# Altium footprint library Connector_JST.PcbLib: 558 footprints (part 19 of 35)
Each footprint in its own frame and in the unit in brackets; x right, y up, seen from the top. Pads: shape width x height; smd on the part's side, far side on the other; paste and mask are expansions set on the pad; w line width, h text height; cw(c..) or ccw(c..) is an arc to the next point about the centre after c.
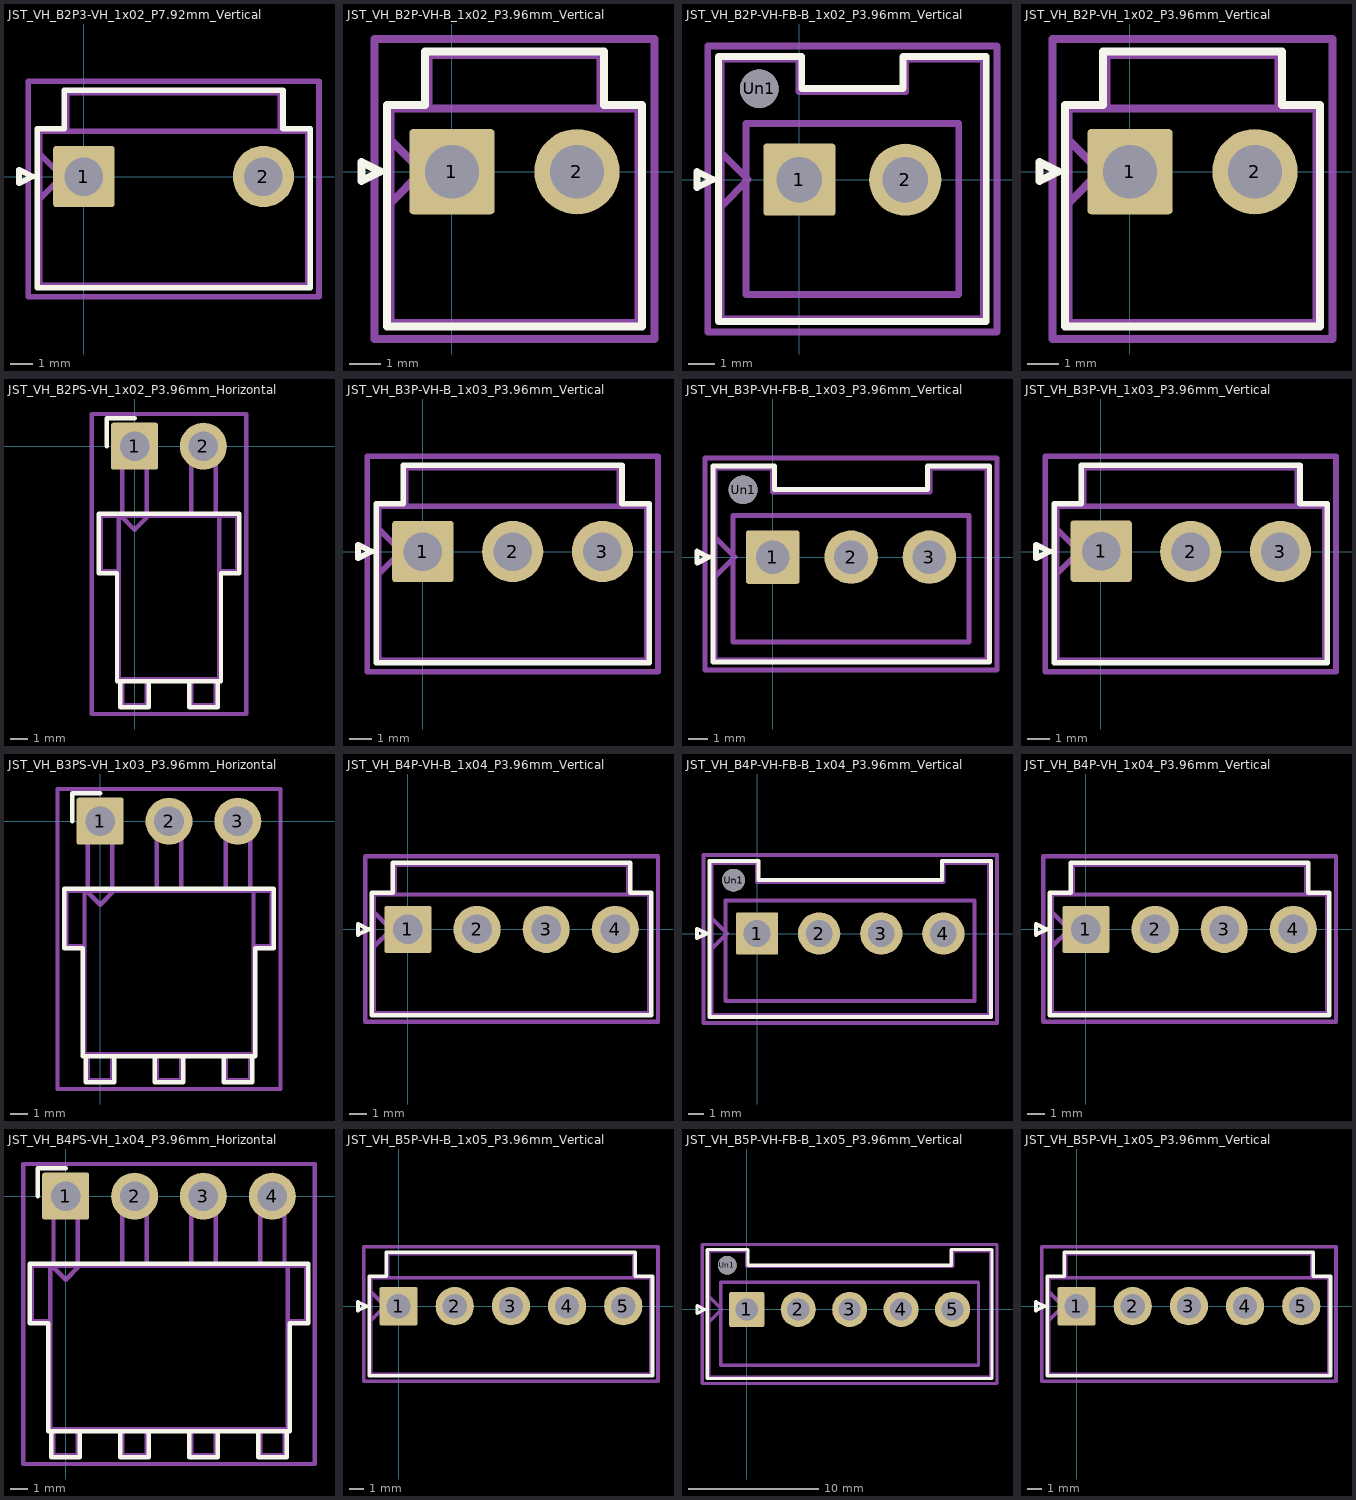
[diagram p18: the footprints below, top view; thin cyan lines are the x and y axes]

## JST_VH_B2P3-VH_1x02_P7.92mm_Vertical [mm] "JST_VH_B2P3-VH_1x02_P7.92mm_Vertical"
pads (2):
  rrect9% 2.7x2.7 hole 1.7: 1(0,0)
  round 2.7 hole 1.7: 2(7.92,0)
F.SilkS:
  lines w0.254: -2.86,-0.3 -2.26,0 -2.86,0.3 -2.86,-0.3 ; -2.06,-4.91 9.98,-4.91 9.98,2.11 8.78,2.11 8.78,3.81 -0.86,3.81 -0.86,2.11 -2.06,2.11 -2.06,-4.91
Top Component Center:
  lines w0.127: -0.127,0 0.127,0 ; 0,-0.127 0,0.127
Top Assembly:
  lines w0.254: -1.95,-1 -0.95,0 -1.95,1 ; -0.75,2 -0.75,3.7 8.67,3.7 8.67,2 ; -1.95,-4.8 9.87,-4.8 9.87,2 -1.95,2 -1.95,-4.8
Top Courtyard:
  lines w0.254: -2.45,-5.3 10.37,-5.3 10.37,4.2 -2.45,4.2 -2.45,-5.3
Top Designator:
  text ".Designator" at 0.253,-2.503 h1.52

## JST_VH_B2P-VH-B_1x02_P3.96mm_Vertical [mm] "JST_VH_B2P-VH-B_1x02_P3.96mm_Vertical"
pads (2):
  rrect9% 2.7x2.7 hole 1.7: 1(0,0)
  round 2.7 hole 1.7: 2(3.96,0)
F.SilkS:
  lines w0.254: -2.86,-0.3 -2.86,0.3 -2.26,0 -2.86,-0.3 ; -2.06,-4.91 -2.06,2.11 -0.86,2.11 -0.86,3.81 4.82,3.81 4.82,2.11 6.02,2.11 6.02,-4.91 -2.06,-4.91
Top Component Center:
  lines w0.127: -0.127,0 0.127,0 ; 0,-0.127 0,0.127
Top Assembly:
  lines w0.254: -1.95,-1 -0.95,0 -1.95,1 ; -0.75,2 -0.75,3.7 4.71,3.7 4.71,2 ; -1.95,-4.8 -1.95,2 5.91,2 5.91,-4.8 -1.95,-4.8
Top Courtyard:
  lines w0.254: -2.45,-5.3 -2.45,4.2 6.41,4.2 6.41,-5.3 -2.45,-5.3
Top Designator:
  text ".Designator" at -1.398,-2.884 h1.52

## JST_VH_B2P-VH-FB-B_1x02_P3.96mm_Vertical [mm] "JST_VH_B2P-VH-FB-B_1x02_P3.96mm_Vertical"
pads (3):
  rrect9% 2.7x2.7 hole 1.7: 1(0,0)
  round 2.7 hole 1.7: 2(3.96,0)
  round 1.45 hole 1.45: Un1(-1.5,3.4)
F.SilkS:
  lines w0.254: -3.83,-0.3 -3.23,0 -3.83,0.3 -3.83,-0.3 ; -3.03,-5.31 6.99,-5.31 6.99,4.61 3.87,4.61 3.87,3.41 0.09,3.41 0.09,4.61 -3.03,4.61 -3.03,-5.31
Top Component Center:
  lines w0.127: -0.127,0 0.127,0 ; 0,-0.127 0,0.127
Top Assembly:
  lines w0.254: -2.92,-1 -1.92,0 -2.92,1 ; -2.92,-5.2 6.88,-5.2 6.88,4.5 3.98,4.5 3.98,3.3 -0.02,3.3 -0.02,4.5 -2.92,4.5 -2.92,-5.2 ; -2,-4.3 5.96,-4.3 5.96,2.1 -2,2.1 -2,-4.3
Top Courtyard:
  lines w0.254: -3.43,-5.7 7.39,-5.7 7.39,5 -3.43,5 -3.43,-5.7
Top Designator:
  text ".Designator" at -1.525,-3.265 h1.52

## JST_VH_B2P-VH_1x02_P3.96mm_Vertical [mm] "JST_VH_B2P-VH_1x02_P3.96mm_Vertical"
pads (2):
  rrect9% 2.7x2.7 hole 1.7: 1(0,0)
  round 2.7 hole 1.7: 2(3.96,0)
F.SilkS:
  lines w0.254: -2.86,-0.3 -2.86,0.3 -2.26,0 -2.86,-0.3 ; -2.06,-4.91 -2.06,2.11 -0.86,2.11 -0.86,3.81 4.82,3.81 4.82,2.11 6.02,2.11 6.02,-4.91 -2.06,-4.91
Top Component Center:
  lines w0.127: -0.127,0 0.127,0 ; 0,-0.127 0,0.127
Top Assembly:
  lines w0.254: -1.95,-1 -0.95,0 -1.95,1 ; -0.75,2 -0.75,3.7 4.71,3.7 4.71,2 ; -1.95,-4.8 -1.95,2 5.91,2 5.91,-4.8 -1.95,-4.8
Top Courtyard:
  lines w0.254: -2.45,-5.3 -2.45,4.2 6.41,4.2 6.41,-5.3 -2.45,-5.3
Top Designator:
  text ".Designator" at -1.652,-2.884 h1.52

## JST_VH_B2PS-VH_1x02_P3.96mm_Horizontal [mm] "JST_VH_B2PS-VH_1x02_P3.96mm_Horizontal"
pads (2):
  rrect9% 2.7x2.7 hole 1.7: 1(0,0)
  round 2.7 hole 1.7: 2(3.96,0)
F.SilkS:
  lines w0.254: -1.61,0 -1.61,1.61 0,1.61 ; -0.82,-13.51 -0.82,-15.01 0.82,-15.01 0.82,-13.51 ; 3.14,-13.51 3.14,-15.01 4.78,-15.01 4.78,-13.51 ; -2.06,-7.31 -2.06,-3.89 6.02,-3.89 6.02,-7.31 4.97,-7.31 4.97,-13.51 -1.01,-13.51 -1.01,-7.31 -2.06,-7.31
Top Component Center:
  lines w0.127: -0.127,0 0.127,0 ; 0,-0.127 0,0.127
Top Assembly:
  lines w0.254: -0.9,-7.2 -1.95,-7.2 -1.95,-4 -0.9,-4 ; -0.8,-4 0,-4.8 0.8,-4 ; -0.7,-13.4 -0.7,-14.9 0.7,-14.9 0.7,-13.4 ; -0.7,-4 -0.7,0 0.7,0 0.7,-4 ; 3.26,-13.4 3.26,-14.9 4.66,-14.9 4.66,-13.4 ; 3.26,-4 3.26,0 4.66,0 4.66,-4 ; 4.86,-7.2 5.91,-7.2 5.91,-4 4.86,-4 ; -0.9,-4 -0.9,-13.4 4.86,-13.4 4.86,-4 ; -0.9,-4 4.86,-4
Top Courtyard:
  lines w0.254: -2.45,-15.4 -2.45,1.85 6.41,1.85 6.41,-15.4 -2.45,-15.4
Top Designator:
  text ".Designator" at -1.45,-7.119 h1.52

## JST_VH_B3P-VH-B_1x03_P3.96mm_Vertical [mm] "JST_VH_B3P-VH-B_1x03_P3.96mm_Vertical"
pads (3):
  rrect9% 2.7x2.7 hole 1.7: 1(0,0)
  round 2.7 hole 1.7: 2(3.96,0) 3(7.92,0)
F.SilkS:
  lines w0.254: -2.86,-0.3 -2.26,0 -2.86,0.3 -2.86,-0.3 ; -2.06,-4.91 9.98,-4.91 9.98,2.11 8.78,2.11 8.78,3.81 -0.86,3.81 -0.86,2.11 -2.06,2.11 -2.06,-4.91
Top Component Center:
  lines w0.127: -0.127,0 0.127,0 ; 0,-0.127 0,0.127
Top Assembly:
  lines w0.254: -1.95,-1 -0.95,0 -1.95,1 ; -0.75,2 -0.75,3.7 8.67,3.7 8.67,2 ; -1.95,-4.8 9.87,-4.8 9.87,2 -1.95,2 -1.95,-4.8
Top Courtyard:
  lines w0.254: -2.45,-5.3 10.37,-5.3 10.37,4.2 -2.45,4.2 -2.45,-5.3
Top Designator:
  text ".Designator" at 0.126,-3.011 h1.52

## JST_VH_B3P-VH-FB-B_1x03_P3.96mm_Vertical [mm] "JST_VH_B3P-VH-FB-B_1x03_P3.96mm_Vertical"
pads (4):
  rrect9% 2.7x2.7 hole 1.7: 1(0,0)
  round 2.7 hole 1.7: 2(3.96,0) 3(7.92,0)
  round 1.45 hole 1.45: Un1(-1.5,3.4)
F.SilkS:
  lines w0.254: -3.83,-0.3 -3.23,0 -3.83,0.3 -3.83,-0.3 ; -3.03,-5.31 10.95,-5.31 10.95,4.61 7.83,4.61 7.83,3.41 0.09,3.41 0.09,4.61 -3.03,4.61 -3.03,-5.31
Top Component Center:
  lines w0.127: -0.127,0 0.127,0 ; 0,-0.127 0,0.127
Top Assembly:
  lines w0.254: -2.92,-1 -1.92,0 -2.92,1 ; -2.92,-5.2 10.84,-5.2 10.84,4.5 7.94,4.5 7.94,3.3 -0.02,3.3 -0.02,4.5 -2.92,4.5 -2.92,-5.2 ; -2,-4.3 9.92,-4.3 9.92,2.1 -2,2.1 -2,-4.3
Top Courtyard:
  lines w0.254: -3.42,-5.7 11.34,-5.7 11.34,5 -3.42,5 -3.42,-5.7
Top Designator:
  text ".Designator" at 0.634,-2.884 h1.52

## JST_VH_B3P-VH_1x03_P3.96mm_Vertical [mm] "JST_VH_B3P-VH_1x03_P3.96mm_Vertical"
pads (3):
  rrect9% 2.7x2.7 hole 1.7: 1(0.015,0.016)
  round 2.7 hole 1.7: 2(3.96,0) 3(7.92,0)
F.SilkS:
  lines w0.254: -2.86,-0.3 -2.86,0.3 -2.26,0 -2.86,-0.3 ; -2.06,-4.91 -2.06,2.11 -0.86,2.11 -0.86,3.81 8.78,3.81 8.78,2.11 9.98,2.11 9.98,-4.91 -2.06,-4.91
Top Component Center:
  lines w0.127: -0.112,0.016 0.142,0.016 ; 0.015,-0.111 0.015,0.143
Top Assembly:
  lines w0.254: -1.95,-1 -0.95,0 -1.95,1 ; -0.75,2 -0.75,3.7 8.67,3.7 8.67,2 ; -1.95,-4.8 -1.95,2 9.87,2 9.87,-4.8 -1.95,-4.8
Top Courtyard:
  lines w0.254: -2.45,-5.3 -2.45,4.2 10.37,4.2 10.37,-5.3 -2.45,-5.3
Top Designator:
  text ".Designator" at 0.507,-2.63 h1.52

## JST_VH_B3PS-VH_1x03_P3.96mm_Horizontal [mm] "JST_VH_B3PS-VH_1x03_P3.96mm_Horizontal"
pads (3):
  rrect9% 2.7x2.7 hole 1.7: 1(0,0)
  round 2.7 hole 1.7: 2(3.96,0) 3(7.92,0)
F.SilkS:
  lines w0.254: -1.61,0 -1.61,1.61 0,1.61 ; -0.82,-13.51 -0.82,-15.01 0.82,-15.01 0.82,-13.51 ; 3.14,-13.51 3.14,-15.01 4.78,-15.01 4.78,-13.51 ; 7.1,-13.51 7.1,-15.01 8.74,-15.01 8.74,-13.51 ; -2.06,-7.31 -2.06,-3.89 9.98,-3.89 9.98,-7.31 8.93,-7.31 8.93,-13.51 -1.01,-13.51 -1.01,-7.31 -2.06,-7.31
Top Component Center:
  lines w0.127: -0.127,0 0.127,0 ; 0,-0.127 0,0.127
Top Assembly:
  lines w0.254: -0.9,-7.2 -1.95,-7.2 -1.95,-4 -0.9,-4 ; -0.8,-4 0,-4.8 0.8,-4 ; -0.7,-13.4 -0.7,-14.9 0.7,-14.9 0.7,-13.4 ; -0.7,-4 -0.7,0 0.7,0 0.7,-4 ; 3.26,-13.4 3.26,-14.9 4.66,-14.9 4.66,-13.4 ; 3.26,-4 3.26,0 4.66,0 4.66,-4 ; 7.22,-13.4 7.22,-14.9 8.62,-14.9 8.62,-13.4 ; 7.22,-4 7.22,0 8.62,0 8.62,-4 ; 8.82,-7.2 9.87,-7.2 9.87,-4 8.82,-4 ; -0.9,-4 -0.9,-13.4 8.82,-13.4 8.82,-4 ; -0.9,-4 8.82,-4
Top Courtyard:
  lines w0.254: -2.45,-15.4 -2.45,1.85 10.37,1.85 10.37,-15.4 -2.45,-15.4
Top Designator:
  text ".Designator" at 0.53,-7.119 h1.52

## JST_VH_B4P-VH-B_1x04_P3.96mm_Vertical [mm] "JST_VH_B4P-VH-B_1x04_P3.96mm_Vertical"
pads (4):
  rrect9% 2.7x2.7 hole 1.7: 1(0,0)
  round 2.7 hole 1.7: 2(3.96,0) 3(7.92,0) 4(11.88,0)
F.SilkS:
  lines w0.254: -2.86,-0.3 -2.86,0.3 -2.26,0 -2.86,-0.3 ; -2.06,-4.91 -2.06,2.11 -0.86,2.11 -0.86,3.81 12.74,3.81 12.74,2.11 13.94,2.11 13.94,-4.91 -2.06,-4.91
Top Component Center:
  lines w0.127: -0.127,0 0.127,0 ; 0,-0.127 0,0.127
Top Assembly:
  lines w0.254: -1.95,-1 -0.95,0 -1.95,1 ; -0.75,2 -0.75,3.7 12.63,3.7 12.63,2 ; -1.95,-4.8 -1.95,2 13.83,2 13.83,-4.8 -1.95,-4.8
Top Courtyard:
  lines w0.254: -2.45,-5.3 -2.45,4.2 14.33,4.2 14.33,-5.3 -2.45,-5.3
Top Designator:
  text ".Designator" at 2.412,-2.757 h1.52

## JST_VH_B4P-VH-FB-B_1x04_P3.96mm_Vertical [mm] "JST_VH_B4P-VH-FB-B_1x04_P3.96mm_Vertical"
pads (5):
  rrect9% 2.7x2.7 hole 1.7: 1(0,0)
  round 2.7 hole 1.7: 2(3.96,0) 3(7.92,0) 4(11.88,0)
  round 1.45 hole 1.45: Un1(-1.5,3.4)
F.SilkS:
  lines w0.254: -3.83,-0.3 -3.23,0 -3.83,0.3 -3.83,-0.3 ; -3.03,-5.31 14.91,-5.31 14.91,4.61 11.79,4.61 11.79,3.41 0.09,3.41 0.09,4.61 -3.03,4.61 -3.03,-5.31
Top Component Center:
  lines w0.127: -0.127,0 0.127,0 ; 0,-0.127 0,0.127
Top Assembly:
  lines w0.254: -2.92,-1 -1.92,0 -2.92,1 ; -2.92,-5.2 14.8,-5.2 14.8,4.5 11.9,4.5 11.9,3.3 -0.02,3.3 -0.02,4.5 -2.92,4.5 -2.92,-5.2 ; -2,-4.3 13.88,-4.3 13.88,2.1 -2,2.1 -2,-4.3
Top Courtyard:
  lines w0.254: -3.42,-5.7 15.3,-5.7 15.3,5 -3.42,5 -3.42,-5.7
Top Designator:
  text ".Designator" at 2.539,-2.884 h1.52

## JST_VH_B4P-VH_1x04_P3.96mm_Vertical [mm] "JST_VH_B4P-VH_1x04_P3.96mm_Vertical"
pads (4):
  rrect9% 2.7x2.7 hole 1.7: 1(0,0)
  round 2.7 hole 1.7: 2(3.96,0) 3(7.92,0) 4(11.88,0)
F.SilkS:
  lines w0.254: -2.86,-0.3 -2.26,0 -2.86,0.3 -2.86,-0.3 ; -2.06,-4.91 13.94,-4.91 13.94,2.11 12.74,2.11 12.74,3.81 -0.86,3.81 -0.86,2.11 -2.06,2.11 -2.06,-4.91
Top Component Center:
  lines w0.127: -0.127,0 0.127,0 ; 0,-0.127 0,0.127
Top Assembly:
  lines w0.254: -1.95,-1 -0.95,0 -1.95,1 ; -0.75,2 -0.75,3.7 12.63,3.7 12.63,2 ; -1.95,-4.8 13.83,-4.8 13.83,2 -1.95,2 -1.95,-4.8
Top Courtyard:
  lines w0.254: -2.45,-5.3 14.33,-5.3 14.33,4.2 -2.45,4.2 -2.45,-5.3
Top Designator:
  text ".Designator" at 2.539,2.577 h1.52

## JST_VH_B4PS-VH_1x04_P3.96mm_Horizontal [mm] "JST_VH_B4PS-VH_1x04_P3.96mm_Horizontal"
pads (4):
  rrect9% 2.7x2.7 hole 1.7: 1(0,0)
  round 2.7 hole 1.7: 2(3.96,0) 3(7.92,0) 4(11.88,0)
F.SilkS:
  lines w0.254: -1.61,0 -1.61,1.61 0,1.61 ; -0.82,-13.51 -0.82,-15.01 0.82,-15.01 0.82,-13.51 ; 3.14,-13.51 3.14,-15.01 4.78,-15.01 4.78,-13.51 ; 7.1,-13.51 7.1,-15.01 8.74,-15.01 8.74,-13.51 ; 11.06,-13.51 11.06,-15.01 12.7,-15.01 12.7,-13.51 ; -2.06,-7.31 -1.01,-7.31 -1.01,-13.51 12.89,-13.51 12.89,-7.31 13.94,-7.31 13.94,-3.89 -2.06,-3.89 -2.06,-7.31
Top Component Center:
  lines w0.127: -0.127,0 0.127,0 ; 0,-0.127 0,0.127
Top Assembly:
  lines w0.254: -0.9,-7.2 -1.95,-7.2 -1.95,-4 -0.9,-4 ; -0.8,-4 0,-4.8 0.8,-4 ; -0.7,-13.4 -0.7,-14.9 0.7,-14.9 0.7,-13.4 ; -0.7,-4 -0.7,0 0.7,0 0.7,-4 ; 3.26,-13.4 3.26,-14.9 4.66,-14.9 4.66,-13.4 ; 3.26,-4 3.26,0 4.66,0 4.66,-4 ; 7.22,-13.4 7.22,-14.9 8.62,-14.9 8.62,-13.4 ; 7.22,-4 7.22,0 8.62,0 8.62,-4 ; 11.18,-13.4 11.18,-14.9 12.58,-14.9 12.58,-13.4 ; 11.18,-4 11.18,0 12.58,0 12.58,-4 ; 12.78,-7.2 13.83,-7.2 13.83,-4 12.78,-4 ; -0.9,-4 12.78,-4 ; -0.9,-4 -0.9,-13.4 12.78,-13.4 12.78,-4
Top Courtyard:
  lines w0.254: -2.45,-15.4 14.33,-15.4 14.33,1.85 -2.45,1.85 -2.45,-15.4
Top Designator:
  text ".Designator" at 2.92,-8.853 h1.52

## JST_VH_B5P-VH-B_1x05_P3.96mm_Vertical [mm] "JST_VH_B5P-VH-B_1x05_P3.96mm_Vertical"
pads (5):
  rrect9% 2.7x2.7 hole 1.7: 1(0,0)
  round 2.7 hole 1.7: 2(3.96,0) 3(7.92,0) 4(11.88,0) 5(15.84,0)
F.SilkS:
  lines w0.254: -2.86,-0.3 -2.26,0 -2.86,0.3 -2.86,-0.3 ; -2.06,-4.91 17.9,-4.91 17.9,2.11 16.7,2.11 16.7,3.81 -0.86,3.81 -0.86,2.11 -2.06,2.11 -2.06,-4.91
Top Component Center:
  lines w0.127: -0.127,0 0.127,0 ; 0,-0.127 0,0.127
Top Assembly:
  lines w0.254: -1.95,-1 -0.95,0 -1.95,1 ; -0.75,2 -0.75,3.7 16.59,3.7 16.59,2 ; -1.95,-4.8 17.79,-4.8 17.79,2 -1.95,2 -1.95,-4.8
Top Courtyard:
  lines w0.254: -2.45,-5.3 18.29,-5.3 18.29,4.2 -2.45,4.2 -2.45,-5.3
Top Designator:
  text ".Designator" at 3.936,2.45 h1.52

## JST_VH_B5P-VH-FB-B_1x05_P3.96mm_Vertical [mm] "JST_VH_B5P-VH-FB-B_1x05_P3.96mm_Vertical"
pads (6):
  rrect9% 2.7x2.7 hole 1.7: 1(0,0)
  round 2.7 hole 1.7: 2(3.96,0) 3(7.92,0) 4(11.88,0) 5(15.84,0)
  round 1.45 hole 1.45: Un1(-1.5,3.4)
F.SilkS:
  lines w0.254: -3.83,-0.3 -3.23,0 -3.83,0.3 -3.83,-0.3 ; -3.03,-5.31 18.87,-5.31 18.87,4.61 15.75,4.61 15.75,3.41 0.09,3.41 0.09,4.61 -3.03,4.61 -3.03,-5.31
Top Component Center:
  lines w0.127: -0.127,0 0.127,0 ; 0,-0.127 0,0.127
Top Assembly:
  lines w0.254: -2.92,-1 -1.92,0 -2.92,1 ; -2.92,-5.2 18.76,-5.2 18.76,4.5 15.86,4.5 15.86,3.3 -0.02,3.3 -0.02,4.5 -2.92,4.5 -2.92,-5.2 ; -2,-4.3 17.84,-4.3 17.84,2.1 -2,2.1 -2,-4.3
Top Courtyard:
  lines w0.254: -3.42,-5.7 19.26,-5.7 19.26,5 -3.42,5 -3.42,-5.7
Top Designator:
  text ".Designator" at 4.698,-3.138 h1.52

## JST_VH_B5P-VH_1x05_P3.96mm_Vertical [mm] "JST_VH_B5P-VH_1x05_P3.96mm_Vertical"
pads (5):
  rrect9% 2.7x2.7 hole 1.7: 1(0,0)
  round 2.7 hole 1.7: 2(3.96,0) 3(7.92,0) 4(11.88,0) 5(15.84,0)
F.SilkS:
  lines w0.254: -2.86,-0.3 -2.26,0 -2.86,0.3 -2.86,-0.3 ; -2.06,-4.91 17.9,-4.91 17.9,2.11 16.7,2.11 16.7,3.81 -0.86,3.81 -0.86,2.11 -2.06,2.11 -2.06,-4.91
Top Component Center:
  lines w0.127: -0.127,0 0.127,0 ; 0,-0.127 0,0.127
Top Assembly:
  lines w0.254: -1.95,-1 -0.95,0 -1.95,1 ; -0.75,2 -0.75,3.7 16.59,3.7 16.59,2 ; -1.95,-4.8 17.79,-4.8 17.79,2 -1.95,2 -1.95,-4.8
Top Courtyard:
  lines w0.254: -2.45,-5.3 18.29,-5.3 18.29,4.2 -2.45,4.2 -2.45,-5.3
Top Designator:
  text ".Designator" at 4.19,2.577 h1.52